# Altium footprint library Daxxn_Diodes.PcbLib: 2 footprints
Each footprint in its own frame and in the unit in brackets; x right, y up, seen from the top. Pads: shape width x height; smd on the part's side, far side on the other; paste and mask are expansions set on the pad; w line width, h text height; cw(c..) or ccw(c..) is an arc to the next point about the centre after c.
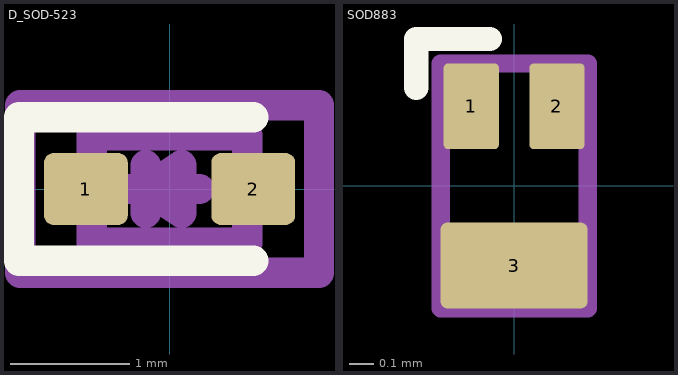
[diagram p0: the footprints below, top view; thin cyan lines are the x and y axes]

## D_SOD-523 [mm]
pads (2):
  rrect25% 0.7x0.6 smd: 1(-0.7,0) 2(0.7,0)
F.SilkS:
  lines w0.254: 0.7,-0.6 -1.26,-0.6 -1.26,0.6 0.7,0.6
F.CrtYd:
  lines w0.254: -1.25,-0.7 -1.25,0.7 1.25,0.7 1.25,-0.7 -1.25,-0.7
F.Fab:
  lines w0.254: -0.35,0 -0.2,0 ; -0.2,-0.2 -0.2,0.2 ; 0.1,0 0.25,0 ; -0.2,0 0.1,-0.2 0.1,0.2 -0.2,0 ; -0.65,-0.45 -0.65,0.45 0.65,0.45 0.65,-0.45 -0.65,-0.45
  text "'.Designator'" at -4.047,0.46 h1

## SOD883 [mm]
pads (3):
  rrect15% 0.225x0.35 smd: 1(-0.175,0.325) 2(0.175,0.325)
  rrect15% 0.6x0.35 smd: 3(0,-0.325)
F.SilkS:
  lines w0.1: -0.4,0.4 -0.4,0.6 -0.1,0.6
F.Fab:
  lines w0.075: -0.3,-0.5 -0.3,0.5 0.3,0.5 0.3,-0.5 -0.3,-0.5
  text "'.Designator'" at -0.999,-0.198 h0.25